# EAGLE library part FRDM-K64F (library ee192)
Shield for Freescale Freedom board FRDM-K64F by nathan wong, Team 7 Sp 2016
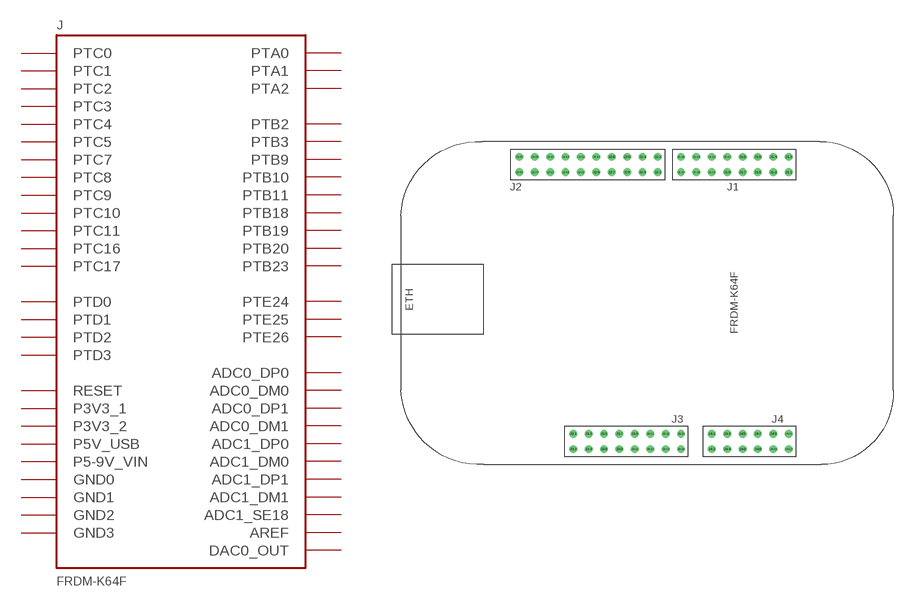
[diagram p0: symbol with the pads of FRDM-K64F; footprint FRDM-K64F]

Designator prefix J

## FRDM-K64F  [FRDM-K64F]
J1-1  PTB18
J1-2  PTC16
J1-3  PTB19
J1-4  PTC17
J1-5  PTC1
J1-6  PTB9
J1-7  PTC8
J1-8  PTA1
J1-9  PTC9
J1-10  PTB23
J1-11  PTC0
J1-12  PTA2
J1-13  PTC7
J1-14  PTC2
J1-15  PTC5
J1-16  PTC3
J2-1  PTE26
J2-2  PTA0
J2-3  GND0
J2-4  PTC4
J2-5  ADC0_DP0
J2-6  PTD0
J2-7  ADC0_DM0
J2-8  PTD2
J2-10  PTD3
J2-11  ADC1_DP0
J2-12  PTD1
J2-13  ADC1_DM0
J2-14  GND1
J2-16  AREF
J2-17  ADC1_SE18
J2-18  PTE25
J2-20  PTE24
J3-4  P3V3_1
J3-6  RESET
J3-8  P3V3_2
J3-10  P5V_USB
J3-12  GND2
J3-14  GND3
J3-16  P5-9V_VIN
J4-1  ADC0_DP1
J4-2  PTB2
J4-3  ADC0_DM1
J4-4  PTB3
J4-5  ADC1_DP1
J4-6  PTB10
J4-7  ADC1_DM1
J4-8  PTB11
J4-9  PTB20
J4-10  PTC11
J4-11  DAC0_OUT
J4-12  PTC10

## Footprint FRDM-K64F (pad centres in mm)
FRDM-K64F
drill 0.8: J1-1 23.622,21.59; J1-2 23.622,24.13; J1-3 21.082,21.59; J1-4 21.082,24.13; J1-5 18.542,21.59; J1-6 18.542,24.13; J1-7 16.002,21.59; J1-8 16.002,24.13; J1-9 13.462,21.59; J1-10 13.462,24.13; J1-11 10.922,21.59; J1-12 10.922,24.13; J1-13 8.382,21.59; J1-14 8.382,24.13; J1-15 5.842,21.59; J1-16 5.842,24.13; J2-1 2.032,21.59; J2-2 2.032,24.13; J2-3 -0.508,21.59; J2-4 -0.508,24.13; J2-5 -3.048,21.59; J2-6 -3.048,24.13; J2-7 -5.588,21.59; J2-8 -5.588,24.13; J2-9 -8.128,21.59; J2-10 -8.128,24.13; J2-11 -10.668,21.59; J2-12 -10.668,24.13; J2-13 -13.208,21.59; J2-14 -13.208,24.13; J2-15 -15.748,21.59; J2-16 -15.748,24.13; J2-17 -18.288,21.59; J2-18 -18.288,24.13; J2-19 -20.828,21.59; J2-20 -20.828,24.13; J3-1 -11.938,-21.59; J3-2 -11.938,-24.13; J3-3 -9.398,-21.59; J3-4 -9.398,-24.13; J3-5 -6.858,-21.59; J3-6 -6.858,-24.13; J3-7 -4.318,-21.59; J3-8 -4.318,-24.13; J3-9 -1.778,-21.59; J3-10 -1.778,-24.13; J3-11 0.762,-21.59; J3-12 0.762,-24.13; J3-13 3.302,-21.59; J3-14 3.302,-24.13; J3-15 5.842,-21.59; J3-16 5.842,-24.13; J4-1 10.922,-21.59; J4-2 10.922,-24.13; J4-3 13.462,-21.59; J4-4 13.462,-24.13; J4-5 16.002,-21.59; J4-6 16.002,-24.13; J4-7 18.542,-21.59; J4-8 18.542,-24.13; J4-9 21.082,-21.59; J4-10 21.082,-24.13; J4-11 23.622,-21.59; J4-12 23.622,-24.13